# EAGLE library part 01STANDARD_PQ2016_THT_V_14PIN (library Wurth Electronics Midcom Inc V1-0)
Package Style: Standard PQ2016 Mounting: THT Pins: 14 pins Bobbin: 070-5674 Best pinouts for production vary per application. Please contact Wurth Electronics Midcom, Inc. for assistance with your custom design. Website: Wurth Electronics Midcom <http://www.we-online.com/midcom> Contact us Wurth Electronics Midcom, Inc. 121 Airport Dr. Watertown, SD 57201 Phone: (605) 886-4385 Fax: (605) 886-4486 E-Mail: midcom@we-online.com
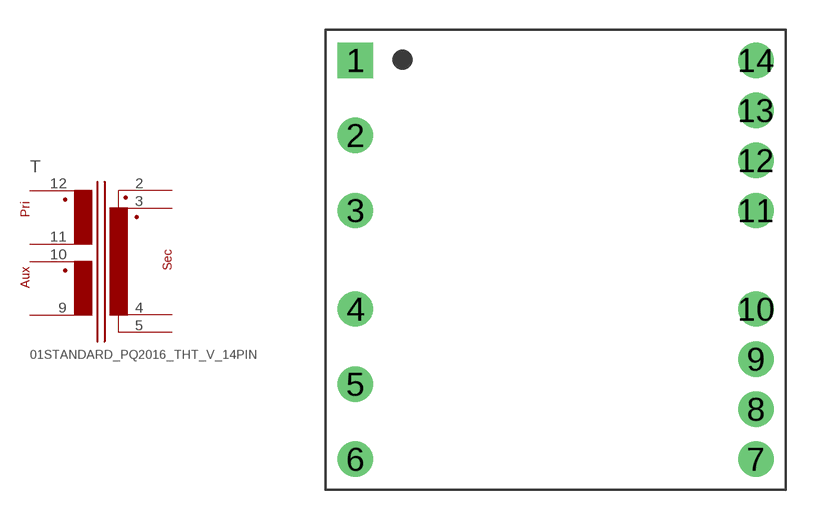
[diagram p189: symbol with the pads of 01STANDARD_PQ2016_THT_V_14PIN; footprint 01STANDARD_PQ2016_THT_V_14PIN]

Designator prefix T

## 01STANDARD_PQ2016_THT_V_14PIN  [01STANDARD_PQ2016_THT_V_14PIN]
2  5  pas
3  7  pas
4  8  pas
5  6  pas
9  4  pas
10  3  pas
11  2  pas
12  1  pas

## Footprint 01STANDARD_PQ2016_THT_V_14PIN (pad centres in mm)
Package Style: Standard PQ2016 Mounting: THT Pins: 14 pins Bobbin: 070-5674
drill 1.194 square: 1 -10.16,10.122
drill 1.194 round: 2 -10.16,6.312; 3 -10.16,2.502; 4 -10.16,-2.502; 5 -10.16,-6.312; 6 -10.16,-10.122; 7 10.16,-10.122; 8 10.16,-7.582; 9 10.16,-5.042; 10 10.16,-2.502; 11 10.16,2.502; 12 10.16,5.042; 13 10.16,7.582; 14 10.16,10.122